# Altium footprint library ZX_UNO_Aplus2.PcbLib: 24 footprints (part 1 of 2)
Each footprint in its own frame and in the unit in brackets; x right, y up, seen from the top. Pads: shape width x height; smd on the part's side, far side on the other; paste and mask are expansions set on the pad; w line width, h text height; cw(c..) or ccw(c..) is an arc to the next point about the centre after c.
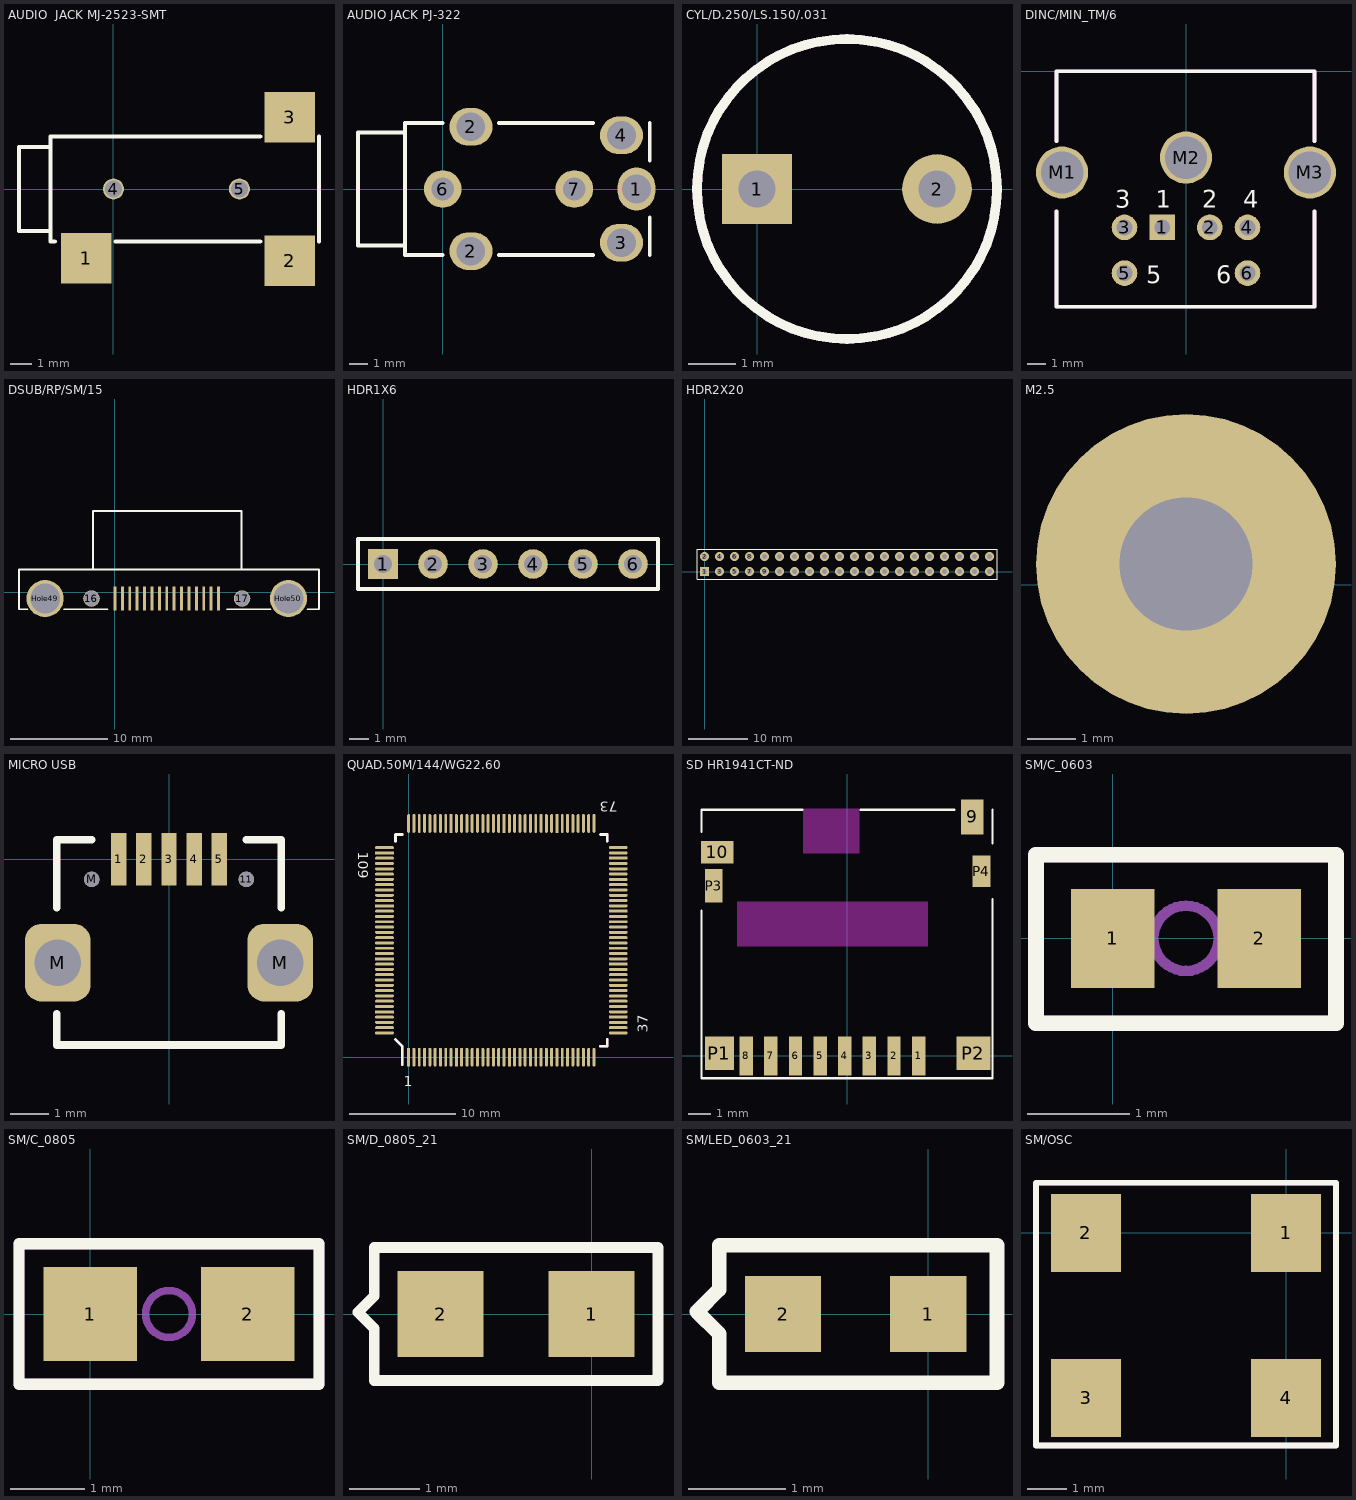
[diagram p0: the footprints below, top view; thin cyan lines are the x and y axes]

## AUDIO  JACK MJ-2523-SMT [mil]
height 23.62
pads (5):
  rect 94.47x94.47 smd: 1(-51.18,-129.72) 2(330.72,-134.85) 3(330.72,134.85)
  round 39.37 hole 31.5 unplated: 4(0,0) 5(236.2,0)
Top Overlay:
  lines w8: -118,-78.67 -177,-78.67 -177,78.67 -118,78.67 ; -110.13,-98.33 -118,-98.33 -118,98.33 275.33,98.33 ; 3.93,-98.33 275.33,-98.33 ; 385.47,-98.33 385.47,98.33

## AUDIO JACK PJ-322 [mm]
pads (7):
  oval 2x2.286 hole 1.524: 1(10.3,0)
  oval 2.286x2 hole 1.524: 2(1.5,-3.3) 2(1.5,3.3) 3(9.5,-2.85) 4(9.5,2.85)
  round 2 hole 1.2 unplated: 6(0,0) 7(7,0)
Top Overlay:
  lines w0.203: -2,-3 -4.5,-3 -4.5,3 -2,3 ; 0,3.5 -2,3.5 -2,-3.5 0,-3.5 ; 3,-3.5 8,-3.5 ; 3,3.5 8,3.5 ; 11,-3.5 11,-1.5 ; 11,1.5 11,3.5 ; 0,-3.5 0,-3.5

## CYL/D.250/LS.150/.031 [mil]
pads (2):
  rect 58x58 / inner round 0 / far side rect 58x58 hole 31: 1(0,0)
  round 58 / inner round 0 / far side round 58 hole 31: 2(150,0)
Top Overlay:
  lines w8: -50,0 ccw(c75,0) 75,-125 ccw(c75,0) 200,0 ccw(c75,0) 75,125 ccw(c75,0) -50,0
Mechanical 1:
  lines w8: -50,0 ccw(c75,0) 75,-125 ccw(c75,0) 200,0 ccw(c75,0) 75,125 ccw(c75,0) -50,0

## DINC/MIN_TM/6 [mil]
height 23.62
pads (9):
  rect 55x55 hole 34: 1(-51,-335)
  round 55 hole 34: 2(51,-335) 3(-132,-335) 4(132,-335) 5(-132,-433) 6(132,-433)
  round 112 hole 91: M1(-266,-217) M2(0,-185) M3(266,-217)
Top Overlay:
  lines w8: -278,-300 -278,-505 276,-505 276,-300 ; -278,-150 -278,0 276,0 276,-150
  text "4" at 122.62,-293.12 h37.5
  text "6" at 65,-455 h37.5
  text "5" at -85,-455 h37.5
  text "3" at -152.38,-293.12 h37.5
  text "1" at -64.88,-293.12 h37.5
  text "2" at 35.12,-293.12 h37.5
Mechanical 1:
  lines w8: -278,-300 -278,-505 276,-505 276,-300 ; -278,-150 -278,0 276,0 276,-150
  text "4" at 122.62,-293.12 h37.5
  text "6" at 65,-455 h37.5
  text "5" at -85,-455 h37.5
  text "3" at -152.38,-293.12 h37.5
  text "1" at -64.88,-293.12 h37.5
  text "2" at 35.12,-293.12 h37.5

## DSUB/RP/SM/15 [mm]
pads (19):
  rect 0.3x2.5 smd: 1(1.52,-0.65) 2(3.8,-0.65) 3(6.08,-0.65) 4(8.36,-0.65) 5(10.64,-0.65) 6(0,-0.65) 7(2.28,-0.65) 8(4.56,-0.65) 9(6.84,-0.65) 10(9.12,-0.65) 11(0.76,-0.65) 12(3.04,-0.65) 13(5.32,-0.65) 14(7.6,-0.65) 15(9.88,-0.65)
  round 1.7 hole 1.5: 16(-2.41,-0.65) 17(13.05,-0.65)
  round 3.81 hole 3.048: Hole49(-7.175,-0.65) Hole50(17.815,-0.65)
Top Overlay:
  lines w0.2: -9.005,-1.75 -9.855,-1.75 -9.855,2.35 20.955,2.35 20.955,-1.75 19.755,-1.75 ; -5.25,-1.75 -0.75,-1.75 ; -2.25,2.35 -2.25,8.35 13,8.35 13,2.35 ; 11.5,-1.75 16,-1.75

## HDR1X6 [mm] "Connector; Header; 6 Position"
height 0.6
pads (6):
  rect 1.5x1.5 hole 0.9: 1(0,0)
  round 1.5 hole 0.9: 2(2.54,0) 3(5.08,0) 4(7.62,0) 5(10.16,0) 6(12.7,0)
Top Overlay:
  lines w0.2: -1.27,-1.27 13.97,-1.27 13.97,1.27 -1.27,1.27 -1.27,-1.27

## HDR2X20 [mm] "Connector; Header; 20x2 Position"
pads (40):
  rect 1.5x1.5 hole 0.9: 1(0,0)
  round 1.5 hole 0.9: 2(0,2.54) 3(2.54,0) 4(2.54,2.54) 5(5.08,0) 6(5.08,2.54) 7(7.62,0) 8(7.62,2.54) 9(10.16,0) 10(10.16,2.54) 11(12.7,0) 12(12.7,2.54) 13(15.24,0) 14(15.24,2.54) 15(17.78,0) 16(17.78,2.54) 17(20.32,0) 18(20.32,2.54) 19(22.86,0) 20(22.86,2.54) 21(25.4,0) 22(25.4,2.54) 23(27.94,0) 24(27.94,2.54) 25(30.48,0) 26(30.48,2.54) 27(33.02,0) 28(33.02,2.54) 29(35.56,0) 30(35.56,2.54) 31(38.1,0) 32(38.1,2.54) 33(40.64,0) 34(40.64,2.54) 35(43.18,0) 36(43.18,2.54) 37(45.72,0) 38(45.72,2.54) 39(48.26,0) 40(48.26,2.54)
Top Overlay:
  lines w0.2: -1.27,-1.27 49.53,-1.27 49.53,3.81 -1.27,3.81 -1.27,-1.27

## M2.5 [mm]
pads (1):
  round 6.2 hole 2.75: ""(21.85,0.43)

## MICRO USB [mm]
pads (9):
  rect 0.4x1.35 smd: 1(-1.3,0) 2(-0.65,0) 3(0,0) 4(0.65,0) 5(1.3,0)
  round 0.4 hole 0.4 unplated: 11(2,-0.525) M(-2,-0.525)
  rrect50% 1.7x2 hole 1.2: M(-2.875,-2.675) M(2.875,-2.675)
Top Overlay:
  lines w0.203: -2.9,-4 -2.9,-4.8 2.9,-4.8 2.9,-4 ; -2.9,-1.25 -2.9,0.5 -2,0.5 ; 2,0.5 2.9,0.5 2.9,-1.25

## QUAD.50M/144/WG22.60 [mil]
pads (144):
  rect 11x70 smd: 1(0,0) 10(177.3,0) 20(374.3,0) 30(571.3,0) 80(551.6,869.5) 90(354.6,869.5) 100(157.6,869.5)
  oval 11x70 smd: 2(19.7,0) 3(39.4,0) 4(59.1,0) 5(78.8,0) 6(98.5,0) 7(118.2,0) 8(137.9,0) 9(157.6,0) 11(197,0) 12(216.7,0) 13(236.4,0) 14(256.1,0) 15(275.8,0) 16(295.5,0) 17(315.2,0) 18(334.9,0) 19(354.6,0) 21(394,0) 22(413.7,0) 23(433.4,0) 24(453.1,0) 25(472.8,0) 26(492.5,0) 27(512.2,0) 28(531.9,0) 29(551.6,0) 31(591,0) 32(610.7,0) 33(630.4,0) 34(650.1,0) 35(669.8,0) 36(689.5,0) 73(689.5,869.5) 74(669.8,869.5) 75(650.1,869.5) 76(630.4,869.5) 77(610.7,869.5) 78(591,869.5) 79(571.3,869.5) 81(531.9,869.5) 82(512.2,869.5) 83(492.5,869.5) 84(472.8,869.5) 85(453.1,869.5) 86(433.4,869.5) 87(413.7,869.5) 88(394,869.5) 89(374.3,869.5) 91(334.9,869.5) 92(315.2,869.5) 93(295.5,869.5) 94(275.8,869.5) 95(256.1,869.5) 96(236.4,869.5) 97(216.7,869.5) 98(197,869.5) 99(177.3,869.5) 101(137.9,869.5) 102(118.2,869.5) 103(98.5,869.5) 104(78.8,869.5) 105(59.1,869.5) 106(39.4,869.5) 107(19.7,869.5) 108(0,869.5)
  oval 70x11 smd: 37(779.5,90) 38(779.5,109.7) 39(779.5,129.4) 41(779.5,168.8) 42(779.5,188.5) 43(779.5,208.2) 44(779.5,227.9) 45(779.5,247.6) 46(779.5,267.3) 47(779.5,287) 48(779.5,306.7) 49(779.5,326.4) 51(779.5,365.8) 52(779.5,385.5) 53(779.5,405.2) 54(779.5,424.9) 55(779.5,444.6) 56(779.5,464.3) 57(779.5,484) 58(779.5,503.7) 59(779.5,523.4) 61(779.5,562.8) 62(779.5,582.5) 63(779.5,602.2) 64(779.5,621.9) 65(779.5,641.6) 66(779.5,661.3) 67(779.5,681) 68(779.5,700.7) 69(779.5,720.4) 71(779.5,759.8) 72(779.5,779.5) 109(-90,779.5) 111(-90,740.1) 112(-90,720.4) 113(-90,700.7) 114(-90,681) 115(-90,661.3) 116(-90,641.6) 117(-90,621.9) 118(-90,602.2) 119(-90,582.5) 121(-90,543.1) 122(-90,523.4) 123(-90,503.7) 124(-90,484) 125(-90,464.3) 126(-90,444.6) 127(-90,424.9) 128(-90,405.2) 129(-90,385.5) 131(-90,346.1) 132(-90,326.4) 133(-90,306.7) 134(-90,287) 135(-90,267.3) 136(-90,247.6) 137(-90,227.9) 138(-90,208.2) 139(-90,188.5) 141(-90,149.1) 142(-90,129.4) 143(-90,109.7) 144(-90,90)
  rect 70x11 smd: 40(779.5,149.1) 50(779.5,346.1) 60(779.5,543.1) 70(779.5,740.1) 110(-90,759.8) 120(-90,562.8) 130(-90,365.8) 140(-90,168.8)
Top Overlay:
  lines w10: -49,66 -24,41 -24,-27.8 ; -49,803.5 -49,828.5 -24,828.5 ; 713.5,41 738.5,41 738.5,66 ; 713.5,828.5 738.5,828.5 738.5,803.5
  text "109" at -188.43,763.87 h37.5
  text "37" at 890,90 h37.5
  text "1" at -19.18,-108.42 h37.5
  text "73" at 777.56,950 h37.5
Mechanical 1:
  lines w10: -49,66 -24,41 -24,-27.8 ; -49,803.5 -49,828.5 -24,828.5 ; 713.5,41 738.5,41 738.5,66 ; 713.5,828.5 738.5,828.5 738.5,803.5
Mechanical 2:
  text "QUAD.50M/144/WG22.60" at 603.82,647.62 h22.5

## SD HR1941CT-ND [mm] "Connector; Header; 8 Position"
pads (14):
  rect 0.6x1.75 smd: 1(3.2,0) 2(2.1,0) 3(1,0) 4(-0.1,0) 5(-1.2,0) 6(-2.3,0) 7(-3.4,0) 8(-4.5,0)
  rect 1x1.55 smd: 9(5.6,10.675)
  rect 1.45x1 smd: 10(-5.8,9.1)
  rect 1.3x1.5 smd: P1(-5.7,0.125)
  rect 1.5x1.5 smd: P2(5.65,0.125)
  rect 0.8x1.5 smd: P3(-5.95,7.6)
  rect 0.8x1.4 smd: P4(6,8.25)
Top Overlay:
  lines w0.102: -6.5,6.5 -6.5,-1 6.5,-1 6.5,7 ; -6.5,10 -6.5,11 -2,11 ; 0.6,11 4.8,11 ; 6.5,9.5 6.5,11
Keep-Out Layer:
  pour cut-out: -4.9,6.9 3.6,6.9 3.6,4.9 -4.9,4.9
  pour cut-out: -1.95,11.05 0.55,11.05 0.55,9.05 -1.95,9.05

## SM/C_0603 [mil]
pads (2):
  rect 32x38 smd: 1(0,0) 2(56,0)
Top Overlay:
  lines w6: -29.5,-32.5 -29.5,32 85.5,32 85.5,-32.5 -29.5,-32.5
Mechanical 1:
  lines w6: -29.5,-32.5 -29.5,32 85.5,32 85.5,-32.5 -29.5,-32.5
Mechanical 3:
  lines w4: 15.5,0 cw(c28,0) 28,12.5 cw(c28,0) 40.5,0 cw(c28,0) 28,-12.5 cw(c28,0) 15.5,0

## SM/C_0805 [mil]
pads (2):
  rect 50x50 smd: 1(0,0) 2(84,0)
Top Overlay:
  lines w6: -38,-37.5 122,-37.5 122,37.5 -38,37.5 -38,-37.5
Mechanical 1:
  lines w6: -38,-37.5 122,-37.5 122,37.5 -38,37.5 -38,-37.5
Mechanical 3:
  lines w4: 29.5,0 cw(c42,0) 42,12.5 cw(c42,0) 54.5,0 cw(c42,0) 42,-12.5 cw(c42,0) 29.5,0

## SM/D_0805_21 [mil]
pads (2):
  rect 48x48 smd: 1(0,0) 2(-84,0)
Top Overlay:
  lines w6: -121,-9 -121,-37 37,-37 37,37 -121,37 -121,12 -121,10 -130,1 -121,-8

## SM/LED_0603_21 [mil]
pads (2):
  rect 31x31 smd: 1(0,0) 2(-59,0)
Top Overlay:
  lines w6: -85,-9 -85,-28 28,-28 28,28 -85,28 -85,12 -85,10 -94,1 -85,-8

## SM/OSC [mil]
pads (4):
  rect 70x78 smd: 1(0,0) 2(-200,0) 3(-200,-165) 4(0,-165)
Top Overlay:
  lines w6: -250,-212.5 -250,50 50,50 50,-212.5 -250,-212.5
Mechanical 2:
  lines w6: -250,-212.5 50,-212.5 50,50 -250,50 -250,-212.5